# Altium footprint library MyLibrary.PcbLib: 365 footprints (part 9 of 23)
Each footprint in its own frame and in the unit in brackets; x right, y up, seen from the top. Pads: shape width x height; smd on the part's side, far side on the other; paste and mask are expansions set on the pad; w line width, h text height; cw(c..) or ccw(c..) is an arc to the next point about the centre after c.
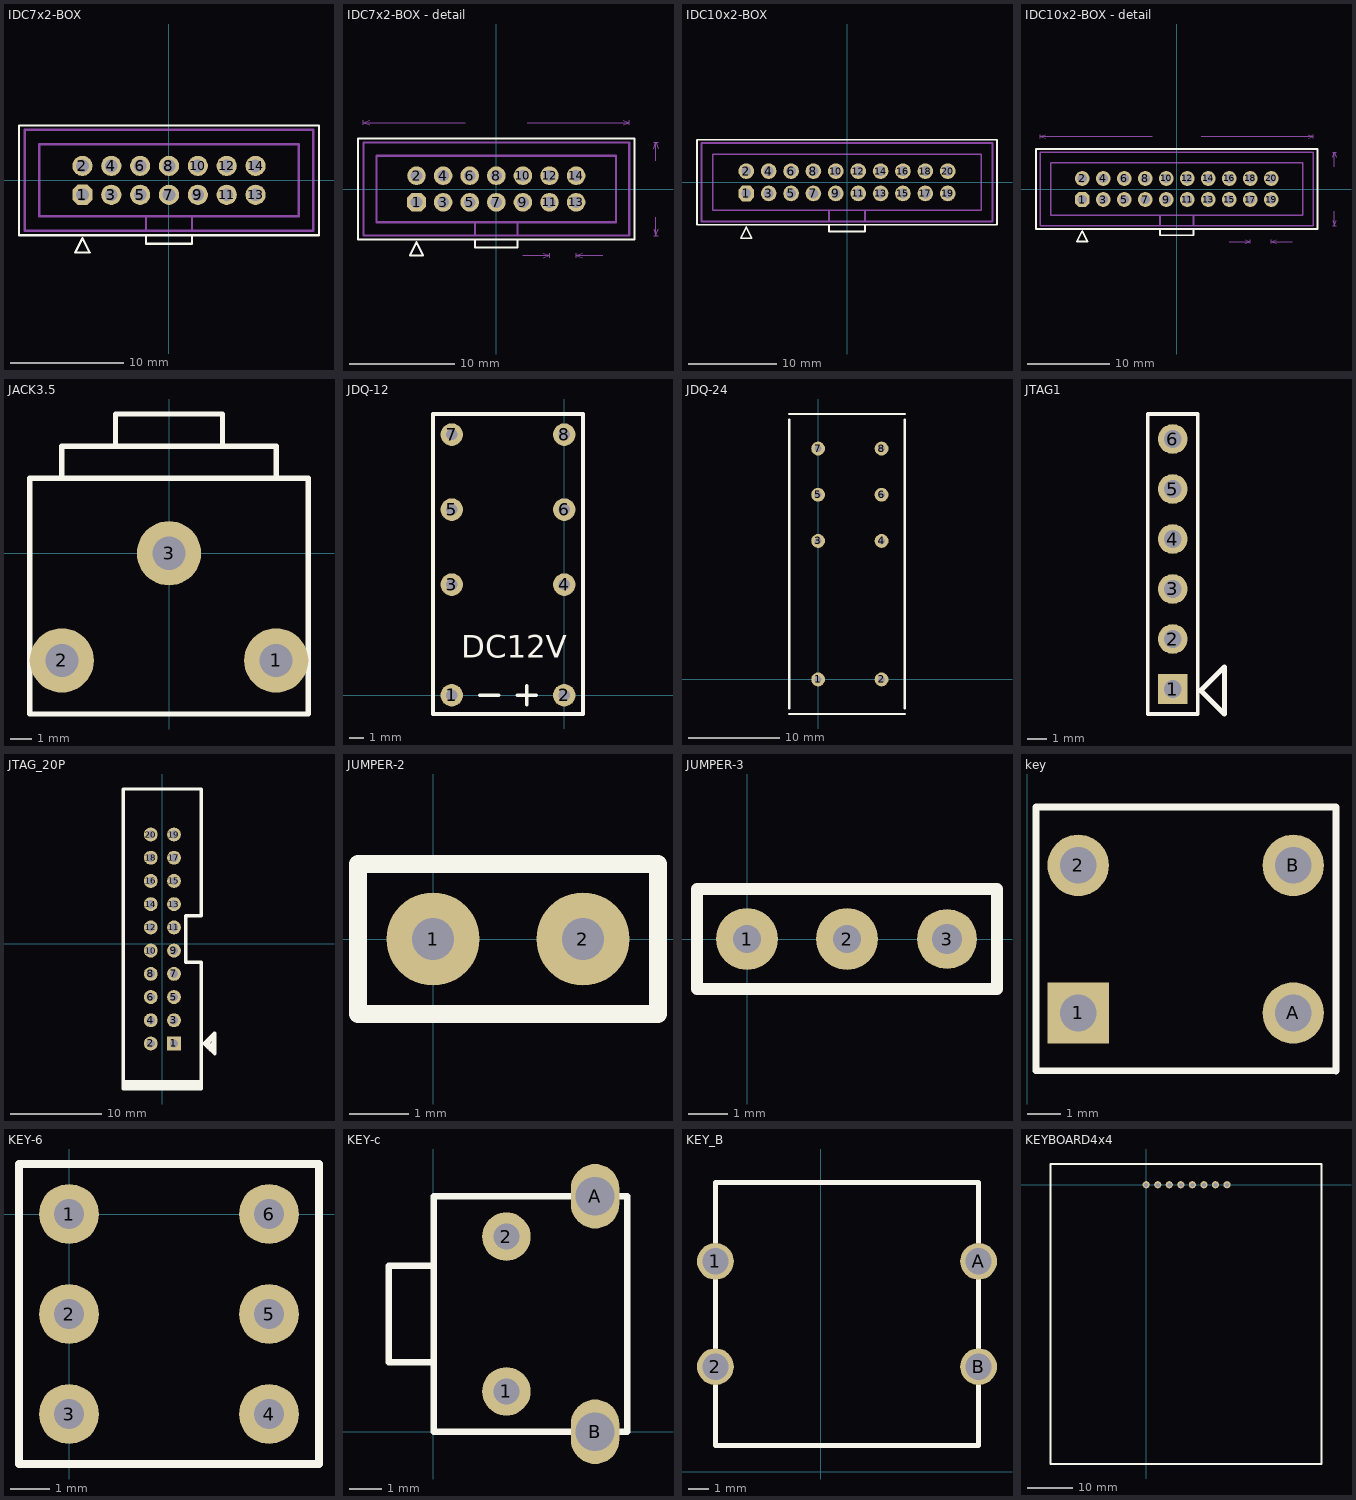
[diagram p8: the footprints below, top view; thin cyan lines are the x and y axes]

## IDC7x2-BOX [mil]
pads (14):
  oct 70x70 hole 44.09: 1(-300,-50)
  round 70 hole 44.09: 2(-300,50) 3(-200,-50) 4(-200,50) 5(-100,-50) 6(-100,50) 7(0,-50) 8(0,50) 9(100,-50) 10(100,50) 11(200,-50) 12(200,50) 13(300,-50) 14(300,50)
Top Overlay:
  lines w8: -80,-190 -80,-220 80,-220 80,-190 ; -520,-190 -520,190 520,190 520,-190 -520,-190 ; -325,-250 -300,-200 -275,-250 -325,-250
Mechanical 1:
  lines w8: -80,-175 -80,-125 ; 80,-175 80,-125 ; -500,-175 -500,175 500,175 500,-175 -500,-175 ; -450,-125 450,-125 450,125 -450,125 -450,-125
  text "14" at 420,30 h40
  text "13" at 420,-70 h40
  text "2" at -360,30 h40
  text "1" at -370,-70 h40

## IDC7x2-BOX - detail [mil]
pads (14):
  oct 70x70 hole 44.09: 1(-300,-50)
  round 70 hole 44.09: 2(-300,50) 3(-200,-50) 4(-200,50) 5(-100,-50) 6(-100,50) 7(0,-50) 8(0,50) 9(100,-50) 10(100,50) 11(200,-50) 12(200,50) 13(300,-50) 14(300,50)
Top Overlay:
  lines w8: -80,-190 -80,-220 80,-220 80,-190 ; -520,-190 520,-190 520,190 -520,190 -520,-190 ; -325,-250 -275,-250 -300,-200 -325,-250
Mechanical 1:
  lines w3.94: -500,242.13 -500,257.87 ; -476.38,242.13 -500,250 ; -476.38,257.87 -500,250 ; -116.27,250 -500,250 ; 100,-250 200,-250 ; 116.27,250 500,250 ; 176.38,-257.87 200,-250 ; 176.38,-242.13 200,-250 ; 200,-257.87 200,-242.13 ; 300,-257.87 300,-242.13 ; 323.62,-257.87 300,-250 ; 323.62,-242.13 300,-250 ; 400,-250 300,-250 ; 476.38,242.13 500,250 ; 476.38,257.87 500,250 ; 500,242.13 500,257.87 ; 592.13,-175 607.87,-175 ; 592.13,-151.38 600,-175 ; 592.13,151.38 600,175 ; 592.13,175 607.87,175 ; 600,-106.43 600,-175 ; 600,106.43 600,175 ; 607.87,-151.38 600,-175 ; 607.87,151.38 600,175
  lines w8: -80,-175 -80,-125 ; 80,-175 80,-125 ; -500,-175 500,-175 500,175 -500,175 -500,-175 ; -450,-125 -450,125 450,125 450,-125 -450,-125
  text "1" at -370,-70 h40
  text "2" at -360,30 h40
  text "13" at 420,-70 h40
  text "14" at 420,30 h40
  text "1000 (mil)" at -106.27,234.26 h23.62
  text "350 (mil)" at 615.74,-96.43 h23.62
  text "100 (mil)" at 155.54,-312.98 h23.62

## IDC10x2-BOX [mil]
pads (20):
  oct 70x70 hole 44.09: 1(-450,-50)
  round 70 hole 44.09: 2(-450,50) 3(-350,-50) 4(-350,50) 5(-250,-50) 6(-250,50) 7(-150,-50) 8(-150,50) 9(-50,-50) 10(-50,50) 11(50,-50) 12(50,50) 13(150,-50) 14(150,50) 15(250,-50) 16(250,50) 17(350,-50) 18(350,50) 19(450,-50) 20(450,50)
Top Overlay:
  lines w8: -80,-190 -80,-220 80,-220 80,-190 ; -670,-190 670,-190 670,190 -670,190 -670,-190 ; -475,-250 -425,-250 -450,-200 -475,-250
Mechanical 1:
  lines w8: -80,-175 -80,-125 ; 80,-175 80,-125 ; -650,-175 650,-175 650,175 -650,175 -650,-175 ; -600,-125 -600,125 600,125 600,-125 -600,-125
  text "2" at -510,30 h40
  text "1" at -520,-70 h40
  text "20" at 570,30 h40
  text "19" at 570,-70 h40

## IDC10x2-BOX - detail [mil]
pads (20):
  oct 70x70 hole 44.09: 1(-450,-50)
  round 70 hole 44.09: 2(-450,50) 3(-350,-50) 4(-350,50) 5(-250,-50) 6(-250,50) 7(-150,-50) 8(-150,50) 9(-50,-50) 10(-50,50) 11(50,-50) 12(50,50) 13(150,-50) 14(150,50) 15(250,-50) 16(250,50) 17(350,-50) 18(350,50) 19(450,-50) 20(450,50)
Top Overlay:
  lines w8: -80,-190 -80,-220 80,-220 80,-190 ; -670,-190 670,-190 670,190 -670,190 -670,-190 ; -475,-250 -425,-250 -450,-200 -475,-250
Mechanical 1:
  lines w3.94: -650,242.13 -650,257.87 ; -626.38,242.13 -650,250 ; -626.38,257.87 -650,250 ; -116.27,250 -650,250 ; 116.27,250 650,250 ; 250,-250 350,-250 ; 326.38,-257.87 350,-250 ; 326.38,-242.13 350,-250 ; 350,-257.87 350,-242.13 ; 450,-257.87 450,-242.13 ; 473.62,-257.87 450,-250 ; 473.62,-242.13 450,-250 ; 550,-250 450,-250 ; 626.38,242.13 650,250 ; 626.38,257.87 650,250 ; 650,242.13 650,257.87 ; 742.13,-175 757.87,-175 ; 742.13,-151.38 750,-175 ; 742.13,151.38 750,175 ; 742.13,175 757.87,175 ; 750,-106.43 750,-175 ; 750,106.43 750,175 ; 757.87,-151.38 750,-175 ; 757.87,151.38 750,175
  lines w8: -80,-175 -80,-125 ; 80,-175 80,-125 ; -650,-175 650,-175 650,175 -650,175 -650,-175 ; -600,-125 -600,125 600,125 600,-125 -600,-125
  text "2" at -510,30 h40
  text "1" at -520,-70 h40
  text "20" at 570,30 h40
  text "19" at 570,-70 h40
  text "1300 (mil)" at -106.27,234.26 h23.62
  text "350 (mil)" at 765.74,-96.43 h23.62
  text "100 (mil)" at 305.54,-312.98 h23.62

## JACK3.5 [mil]
pads (3):
  round 120 hole 62: 1(200,-200) 2(-200,-200) 3(0,0)
Top Overlay:
  lines w10: -100,200 -100,260 100,260 100,200 ; -200,140 -260,140 -260,-300 260,-300 260,140 200,140 ; -200,140 -200,200 200,200 200,140 ; -200,140 200,140

## JDQ-12 [mil]
pads (8):
  round 60 hole 30: 1(-300,0) 2(0,0) 3(-300,295) 4(0,295) 5(-300,495) 6(0,495) 7(-300,695) 8(0,695)
Top Overlay:
  lines w10: -225,0 -175,0 ; -125,0 -75,0 ; -100,-25 -100,25 ; -350,-50 -350,750 50,750 50,-50 -350,-50
  text "DC12V" at -275,100 h60

## JDQ-24 [mil]
pads (8):
  round 60 hole 30: 1(0,0) 2(275,0) 3(0,600) 4(275,600) 5(0,800) 6(275,800) 7(0,1000) 8(275,1000)
Top Overlay:
  lines w10: -125,-150 375,-150 ; -125,-125 -125,1125 ; -125,1150 375,1150 ; 375,-125 375,1125

## JTAG1 [mm]
pads (6):
  rect 1.5x1.5 hole 0.9: 1(29.845,-39.497)
  round 1.5 hole 0.9: 2(29.845,-36.957) 3(29.845,-34.417) 4(29.845,-31.877) 5(29.845,-29.337) 6(29.845,-26.797)
Top Overlay:
  lines w0.2: 28.575,-40.767 31.115,-40.767 31.115,-25.527 28.575,-25.527 28.575,-40.767
  lines w0.254: 31.242,-39.573 31.267,-39.573 32.461,-40.767 32.461,-38.379 31.318,-39.522

## JTAG_20P [mil]
pads (20):
  rect 60x60 hole 36: 1(51.43,-430.05)
  round 60 hole 36: 2(-48.57,-430.05) 3(51.43,-330.05) 4(-48.57,-330.05) 5(51.43,-230.05) 6(-48.57,-230.05) 7(51.43,-130.05) 8(-48.57,-130.05) 9(51.43,-30.05) 10(-48.57,-30.05) 11(51.43,69.95) 12(-48.57,69.95) 13(51.43,169.95) 14(-48.57,169.95) 15(51.43,269.95) 16(-48.57,269.95) 17(51.43,369.95) 18(-48.57,369.95) 19(51.43,469.95) 20(-48.57,469.95)
Top Overlay:
  lines w8: 101.43,-80.05 169.43,-80.05 ; 101.43,119.95 169.43,119.95
  lines w15: -166.57,-615.05 169.43,-615.05 ; -166.57,-605.05 169.43,-605.05 ; -166.57,-595.05 169.43,-595.05 ; 190.75,-439.38 190.75,-435.73 226.43,-400.05 ; 197.85,-446.47 200.01,-446.47 226.43,-420.05 ; 208.57,-457.2 208.57,-452.91 226.43,-435.05 ; 215.67,-464.29 215.67,-460.81 226.43,-450.05 ; -166.57,-626.05 -166.57,665.95 169.43,665.95 169.43,119.95 101.43,119.95 101.43,-80.05 169.43,-80.05 169.43,-626.05 -166.57,-626.05 ; 181.43,-430.05 226.43,-385.05 226.43,-475.05 181.43,-430.05

## JUMPER-2 [mil]
pads (2):
  round 62 hole 28: 1(0,0) 2(100,0)
Top Overlay:
  lines w12: -50,-50 150,-50 150,50 -50,50 -50,-50

## JUMPER-3 [mil]
pads (3):
  round 62 hole 28: 1(0,0) 2(100,0)
  round 60 hole 30: 3(200,0)
Top Overlay:
  lines w12: -50,-50 -50,50 250,50 250,-50 -50,-50

## key [mm]
pads (4):
  rect 1.85x1.85 hole 1.1: 1(1.537,8.02)
  round 1.85 hole 1.1: 2(1.537,12.465) A(8.014,8.02) B(8.014,12.465)
Top Overlay:
  lines w0.2: 0.267,6.28 0.267,14.224 9.3,14.223 9.3,6.273 0.267,6.28

## KEY-6 [mil]
pads (6):
  round 60 hole 30: 1(0,0) 2(0,-100) 3(0,-200) 4(200,-200) 5(200,-100) 6(200,0)
Top Overlay:
  lines w7.87: -50,-250 -50,50 250,50 250,-250 -50,-250

## KEY-c [mm]
pads (4):
  round 1.5 hole 0.8: 1(2.272,1.254) 2(2.272,6.054)
  oval 1.5x2 hole 1.2: A(5.022,7.304) B(5.022,0.004)
Top Overlay:
  lines w0.2: 0.022,2.154 -1.378,2.154 -1.378,5.154 0.022,5.154 ; 0.022,0.004 6.022,0.004 6.022,7.304 0.022,7.304 0.022,0.004

## KEY_B [mil]
pads (4):
  round 70 hole 50: 1(-200,400) 2(-200,200) A(300,400) B(300,200)
Top Overlay:
  lines w10: -200,50 300,50 300,550 -200,550 -200,50

## KEYBOARD4x4 [mil]
pads (8):
  round 62 hole 35: 1(0,0) 2(100,0) 3(200,0) 4(300,0) 5(400,0) 6(500,0) 7(600,0) 8(700,0)
Top Overlay:
  lines w20: -830,-2420 1520,-2420 1520,180 -830,180 -830,-2420